# Altium schematic symbol library kmilo17pet-Microchip_Flash.SchLib: 291 symbols (part 3 of 37)
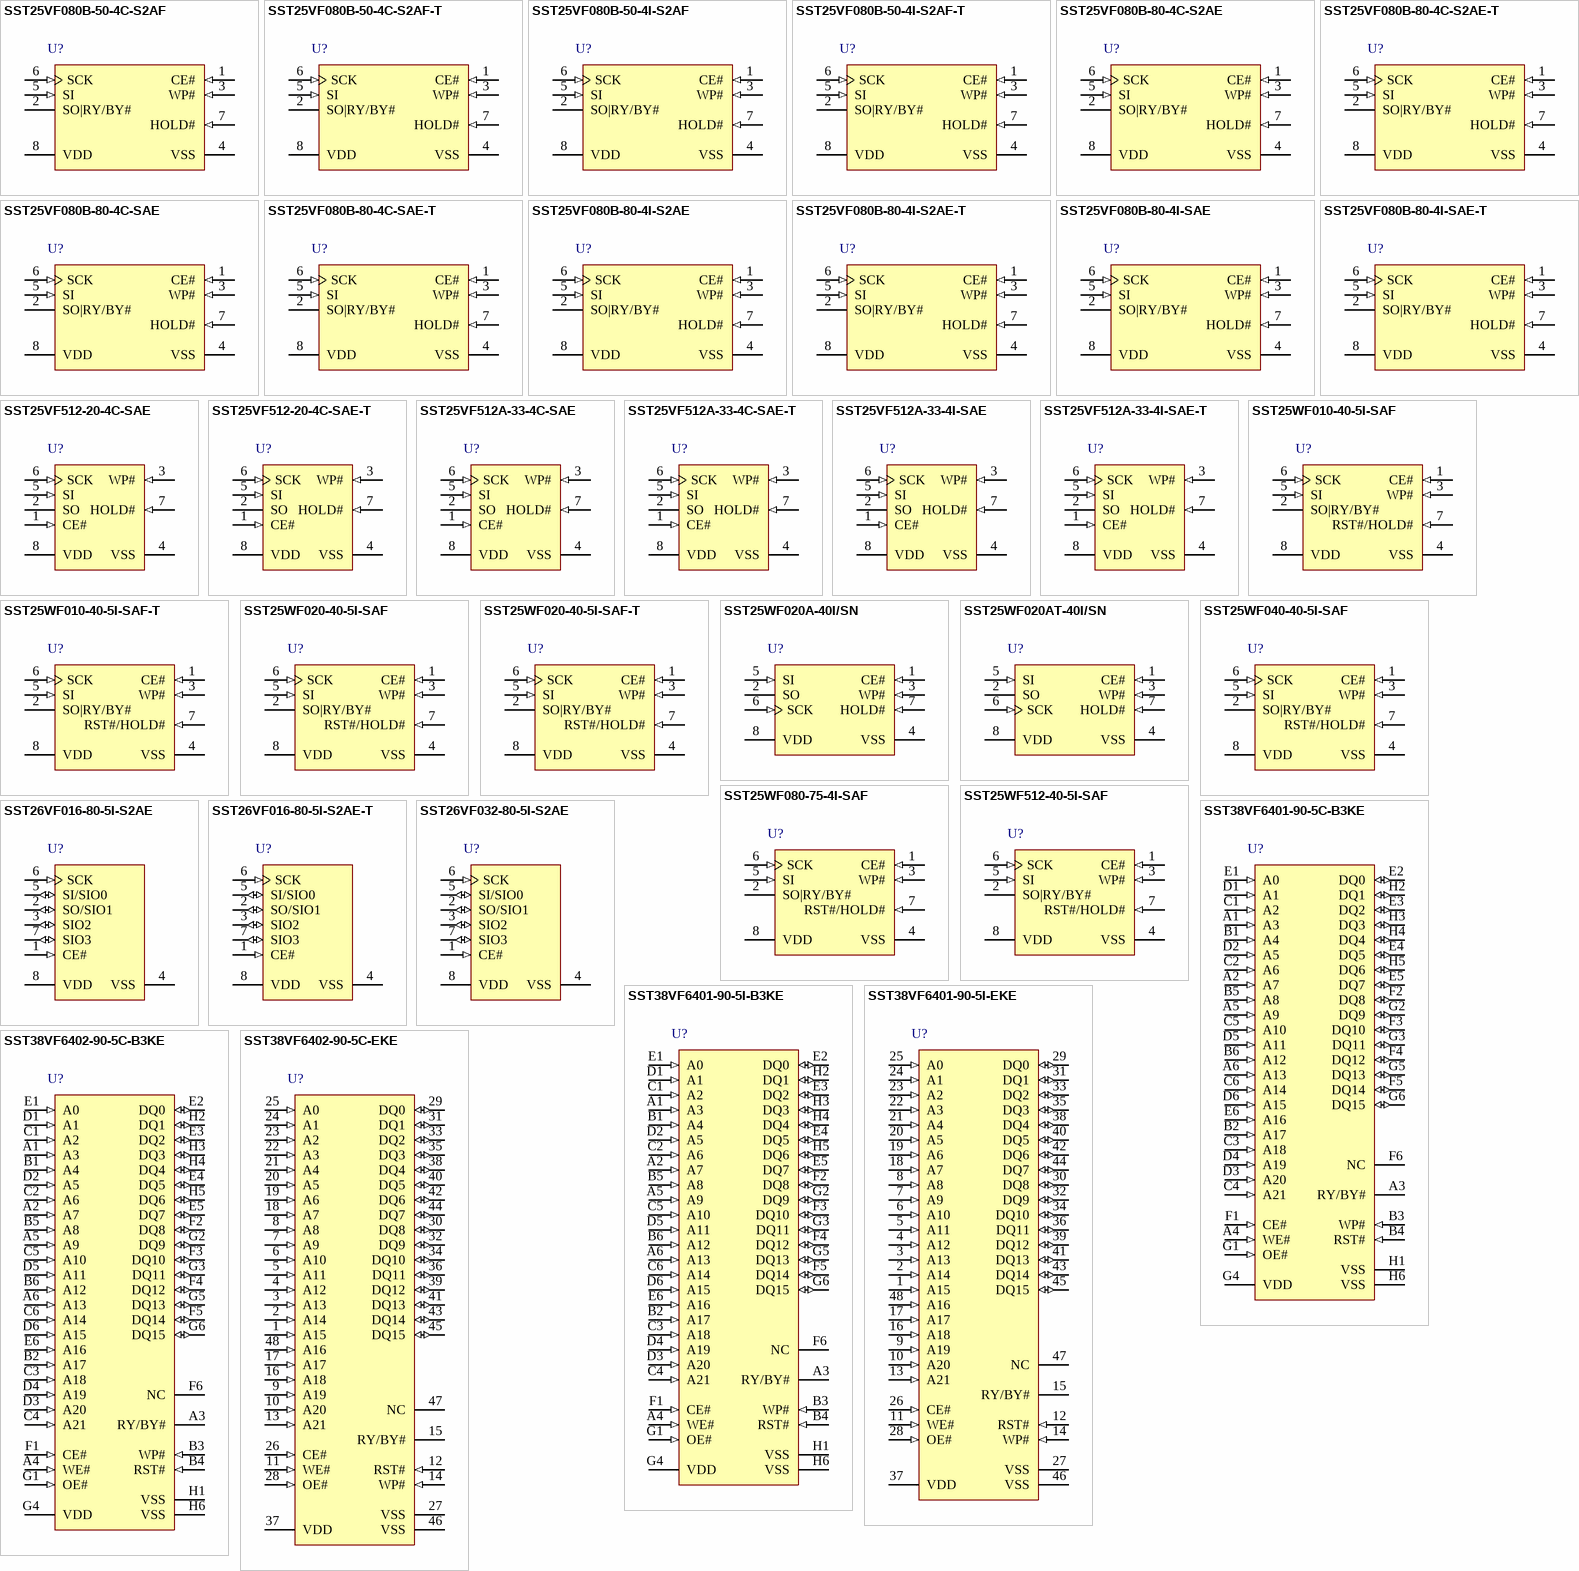
[diagram p17: symbols SST25VF080B-50-4C-S2AF to SST38VF6402-90-5C-EKE]

## SST25VF080B-80-4I-S2AE-T
designator U?
8 Mbit SPI Serial Flash, 2.7 to 3.6 V, 80 MHz, -40 to 85 degC, 8-pin SOIC (S2A8), Tape and Reel; Manufacturer: Microchip; PartNumber: SST25VF080B-80-4I-S2AE-T; DatasheetVersion: Rev. A; PackageVersion: Rev. A; PackageReference: SOIC-S2A8; PackageDescription: 8-Lead Plastic Small Outline Intergrated Circuit, 5.275 x 5.275 mm Body, 1.27 mm Pitch; Supplier 1: Digi-Key; Supplier Part Number 1: SST25VF080B-80-4I-S2AE-T-ND; Mounting Technology: Surface Mount; ComponentLink1Description: Manufacturer URL; ComponentLink1URL: http://www.microchip.com; ComponentLink2Description: Datasheet; ComponentLink2URL: http://ww1.microchip.com/downloads/en/DeviceDoc/25045A.pdf; ComponentLink3Description: Package Specification; ComponentLink3URL: http://ww1.microchip.com/downloads/en/DeviceDoc/25051A.pdf; ComponentLink4Description: Product URL; ComponentLink4URL: http://www.microchip.com/SST25VF080B
footprint MCHP-SOIC-S2A8_N (SOIC, 8-Leads, Body 5.275x5.275mm, Pitch 1.27mm, IPC Medium Density)
footprint MCHP-SOIC-S2A8_L (SOIC, 8-Leads, Body 5.275x5.275mm, Pitch 1.27mm, IPC High Density)
footprint MCHP-SOIC-S2A8_M (SOIC, 8-Leads, Body 5.275x5.275mm, Pitch 1.27mm, IPC Low Density)
pins: 1 CE# (in) "The device is enabled by a high to low transition on CE#. CE# must remain low for the duration of any command sequence.", 2 SO|RY/BY# (hiz), 3 WP# (in) "The Write Protect (WP#) pin is used to enable/disable BPL bit in the status register.", 4 VSS (power) "Ground", 5 SI (in) "To transfer commands, addresses, or data serially into the device. Inputs are latched on the rising edge of the serial clock.", 6 SCK (in) "To provide the timing of the serial interface. Commands, addresses, or input data are latched on the rising edge of the clock input, while output data is shifted out on the falling edge of the clock input.", 7 HOLD# (in) "To temporarily stop serial communication with SPI flash memory without resetting the device.", 8 VDD (power) "To provide power supply (2.7-3.6V)."

## SST25VF080B-80-4I-SAE
designator U?
8 Mbit SPI Serial Flash, 2.7 to 3.6 V, 80 MHz, -40 to 85 degC, 8-pin SOIC (SA8), Tube; Manufacturer: Microchip; PartNumber: SST25VF080B-80-4I-SAE; DatasheetVersion: Rev. A; PackageVersion: Rev. A; PackageReference: SOIC-SA8; PackageDescription: 8-Lead Plastic Small Outline, 4.9 x 3.9 mm Body, 1.27 mm Pitch; Supplier 1: Digi-Key; Supplier Part Number 1: SST25VF080B-80-4I-SAE-ND; Mounting Technology: Surface Mount; Code_JEDEC: MS-012; ComponentLink1Description: Manufacturer URL; ComponentLink1URL: http://www.microchip.com; ComponentLink2Description: Datasheet; ComponentLink2URL: http://ww1.microchip.com/downloads/en/DeviceDoc/25045A.pdf; ComponentLink3Description: Package Specification; ComponentLink3URL: http://ww1.microchip.com/downloads/en/DeviceDoc/25080A.pdf; ComponentLink4Description: Product URL; ComponentLink4URL: http://www.microchip.com/SST25VF080B
footprint MCHP-SOIC-SA8_N (SOIC, 8-Leads, Body 4.9x3.9mm, Pitch 1.27mm, IPC Medium Density)
footprint MCHP-SOIC-SA8_L (SOIC, 8-Leads, Body 4.9x3.9mm, Pitch 1.27mm, IPC High Density)
footprint MCHP-SOIC-SA8_M (SOIC, 8-Leads, Body 4.9x3.9mm, Pitch 1.27mm, IPC Low Density)
pins: 1 CE# (in) "The device is enabled by a high to low transition on CE#. CE# must remain low for the duration of any command sequence.", 2 SO|RY/BY# (hiz), 3 WP# (in) "The Write Protect (WP#) pin is used to enable/disable BPL bit in the status register.", 4 VSS (power) "Ground", 5 SI (in) "To transfer commands, addresses, or data serially into the device. Inputs are latched on the rising edge of the serial clock.", 6 SCK (in) "To provide the timing of the serial interface. Commands, addresses, or input data are latched on the rising edge of the clock input, while output data is shifted out on the falling edge of the clock input.", 7 HOLD# (in) "To temporarily stop serial communication with SPI flash memory without resetting the device.", 8 VDD (power) "To provide power supply (2.7-3.6V)."

## SST25VF080B-80-4I-SAE-T
designator U?
8 Mbit SPI Serial Flash, 2.7 to 3.6 V, 80 MHz, -40 to 85 degC, 8-pin SOIC (SA8), Tape and Reel; Manufacturer: Microchip; PartNumber: SST25VF080B-80-4I-SAE-T; DatasheetVersion: Rev. A; PackageVersion: Rev. A; PackageReference: SOIC-SA8; PackageDescription: 8-Lead Plastic Small Outline, 4.9 x 3.9 mm Body, 1.27 mm Pitch; Supplier 1: Digi-Key; Supplier Part Number 1: SST25VF080B-80-4I-SAE-T-ND; Mounting Technology: Surface Mount; Code_JEDEC: MS-012; ComponentLink1Description: Manufacturer URL; ComponentLink1URL: http://www.microchip.com; ComponentLink2Description: Datasheet; ComponentLink2URL: http://ww1.microchip.com/downloads/en/DeviceDoc/25045A.pdf; ComponentLink3Description: Package Specification; ComponentLink3URL: http://ww1.microchip.com/downloads/en/DeviceDoc/25080A.pdf; ComponentLink4Description: Product URL; ComponentLink4URL: http://www.microchip.com/SST25VF080B
footprint MCHP-SOIC-SA8_N (SOIC, 8-Leads, Body 4.9x3.9mm, Pitch 1.27mm, IPC Medium Density)
footprint MCHP-SOIC-SA8_L (SOIC, 8-Leads, Body 4.9x3.9mm, Pitch 1.27mm, IPC High Density)
footprint MCHP-SOIC-SA8_M (SOIC, 8-Leads, Body 4.9x3.9mm, Pitch 1.27mm, IPC Low Density)
pins: 1 CE# (in) "The device is enabled by a high to low transition on CE#. CE# must remain low for the duration of any command sequence.", 2 SO|RY/BY# (hiz), 3 WP# (in) "The Write Protect (WP#) pin is used to enable/disable BPL bit in the status register.", 4 VSS (power) "Ground", 5 SI (in) "To transfer commands, addresses, or data serially into the device. Inputs are latched on the rising edge of the serial clock.", 6 SCK (in) "To provide the timing of the serial interface. Commands, addresses, or input data are latched on the rising edge of the clock input, while output data is shifted out on the falling edge of the clock input.", 7 HOLD# (in) "To temporarily stop serial communication with SPI flash memory without resetting the device.", 8 VDD (power) "To provide power supply (2.7-3.6V)."

## SST25VF512-20-4C-SAE
designator U?
512 Kbit SPI Serial Flash, 2.7 to 3.6 V, 20 MHz, 0 to 70 degC, 8-pin SOIC (SA8), Tube; Manufacturer: Microchip; PartNumber: SST25VF512-20-4C-SAE; DatasheetVersion: Rev. A; PackageVersion: Rev. A; PackageReference: SOIC-SA8; PackageDescription: 8-Lead Plastic Small Outline, 4.9 x 3.9 mm Body, 1.27 mm Pitch; Supplier 1: Digi-Key; Supplier Part Number 1: SST25VF512-20-4C-SAE-ND; Mounting Technology: Surface Mount; Code_JEDEC: MS-012; ComponentLink1Description: Manufacturer URL; ComponentLink1URL: http://www.microchip.com; ComponentLink2Description: Datasheet; ComponentLink2URL: http://ww1.microchip.com/downloads/en/DeviceDoc/25076A.pdf; ComponentLink3Description: Package Specification; ComponentLink3URL: http://ww1.microchip.com/downloads/en/DeviceDoc/25080A.pdf; ComponentLink4Description: Product URL; ComponentLink4URL: http://www.microchip.com/SST25VF512
footprint MCHP-SOIC-SA8_N (SOIC, 8-Leads, Body 4.9x3.9mm, Pitch 1.27mm, IPC Medium Density)
footprint MCHP-SOIC-SA8_L (SOIC, 8-Leads, Body 4.9x3.9mm, Pitch 1.27mm, IPC High Density)
footprint MCHP-SOIC-SA8_M (SOIC, 8-Leads, Body 4.9x3.9mm, Pitch 1.27mm, IPC Low Density)
pins: 1 CE# (in) "The device is enabled by a high to low transition on CE#. CE# must remain low for the duration of any command sequence.", 2 SO (hiz) "To transfer data serially out of the device. Data is shifted out on the falling edge of the serial clock.", 3 WP# (in) "The Write Protect (WP#) pin is used to enable/disable BPL bit in the status register.", 4 VSS (power) "Ground", 5 SI (in) "To transfer commands, addresses, or data serially into the device. Inputs are latched on the rising edge of the serial clock.", 6 SCK (in) "To provide the timing of the serial interface. Commands, addresses, or input data are latched on the rising edge of the clock input, while output data is shifted out on the falling edge of the clock input.", 7 HOLD# (in) "To temporarily stop serial communication with SPI flash memory without resetting the device.", 8 VDD (power) "To provide power supply (2.7-3.6V)."

## SST25VF512-20-4C-SAE-T
designator U?
512 Kbit SPI Serial Flash, 2.7 to 3.6 V, 20 MHz, 0 to 70 degC, 8-pin SOIC (SA8), Tape and Reel; Manufacturer: Microchip; PartNumber: SST25VF512-20-4C-SAE-T; DatasheetVersion: Rev. A; PackageVersion: Rev. A; PackageReference: SOIC-SA8; PackageDescription: 8-Lead Plastic Small Outline, 4.9 x 3.9 mm Body, 1.27 mm Pitch; Supplier 1: Digi-Key; Supplier Part Number 1: SST25VF512-20-4C-SAE-T-ND; Mounting Technology: Surface Mount; Code_JEDEC: MS-012; ComponentLink1Description: Manufacturer URL; ComponentLink1URL: http://www.microchip.com; ComponentLink2Description: Datasheet; ComponentLink2URL: http://ww1.microchip.com/downloads/en/DeviceDoc/25076A.pdf; ComponentLink3Description: Package Specification; ComponentLink3URL: http://ww1.microchip.com/downloads/en/DeviceDoc/25080A.pdf; ComponentLink4Description: Product URL; ComponentLink4URL: http://www.microchip.com/SST25VF512
footprint MCHP-SOIC-SA8_N (SOIC, 8-Leads, Body 4.9x3.9mm, Pitch 1.27mm, IPC Medium Density)
footprint MCHP-SOIC-SA8_L (SOIC, 8-Leads, Body 4.9x3.9mm, Pitch 1.27mm, IPC High Density)
footprint MCHP-SOIC-SA8_M (SOIC, 8-Leads, Body 4.9x3.9mm, Pitch 1.27mm, IPC Low Density)
pins: 1 CE# (in) "The device is enabled by a high to low transition on CE#. CE# must remain low for the duration of any command sequence.", 2 SO (hiz) "To transfer data serially out of the device. Data is shifted out on the falling edge of the serial clock.", 3 WP# (in) "The Write Protect (WP#) pin is used to enable/disable BPL bit in the status register.", 4 VSS (power) "Ground", 5 SI (in) "To transfer commands, addresses, or data serially into the device. Inputs are latched on the rising edge of the serial clock.", 6 SCK (in) "To provide the timing of the serial interface. Commands, addresses, or input data are latched on the rising edge of the clock input, while output data is shifted out on the falling edge of the clock input.", 7 HOLD# (in) "To temporarily stop serial communication with SPI flash memory without resetting the device.", 8 VDD (power) "To provide power supply (2.7-3.6V)."

## SST25VF512A-33-4C-SAE
designator U?
512 Kbit SPI Serial Flash, 2.7 to 3.6 V, 33 MHz, 0 to 70 degC, 8-pin SOIC (SA8), Tube; Manufacturer: Microchip; PartNumber: SST25VF512A-33-4C-SAE; DatasheetVersion: DS25090A; PackageVersion: Rev. A; PackageReference: SOIC-SA8; PackageDescription: 8-Lead Plastic Small Outline, 4.9 x 3.9 mm Body, 1.27 mm Pitch; Supplier 1: Digi-Key; Supplier Part Number 1: SST25VF512A-33-4C-SAE-ND; Mounting Technology: Surface Mount; Code_JEDEC: MS-012; ComponentLink1Description: Manufacturer URL; ComponentLink1URL: http://www.microchip.com; ComponentLink2Description: Datasheet; ComponentLink2URL: http://ww1.microchip.com/downloads/en/DeviceDoc/25090A.pdf; ComponentLink3Description: Package Specification; ComponentLink3URL: http://ww1.microchip.com/downloads/en/DeviceDoc/25080A.pdf; ComponentLink4Description: Product URL; ComponentLink4URL: http://www.microchip.com/SST25VF512A
footprint MCHP-SOIC-SA8_N (SOIC, 8-Leads, Body 4.9x3.9mm, Pitch 1.27mm, IPC Medium Density)
footprint MCHP-SOIC-SA8_L (SOIC, 8-Leads, Body 4.9x3.9mm, Pitch 1.27mm, IPC High Density)
footprint MCHP-SOIC-SA8_M (SOIC, 8-Leads, Body 4.9x3.9mm, Pitch 1.27mm, IPC Low Density)
pins: 1 CE# (in) "The device is enabled by a high to low transition on CE#. CE# must remain low for the duration of any command sequence.", 2 SO (hiz) "To transfer data serially out of the device. Data is shifted out on the falling edge of the serial clock.", 3 WP# (in) "The Write Protect (WP#) pin is used to enable/disable BPL bit in the status register.", 4 VSS (power) "Ground", 5 SI (in) "To transfer commands, addresses, or data serially into the device. Inputs are latched on the rising edge of the serial clock.", 6 SCK (in) "To provide the timing of the serial interface. Commands, addresses, or input data are latched on the rising edge of the clock input, while output data is shifted out on the falling edge of the clock input.", 7 HOLD# (in) "To temporarily stop serial communication with SPI flash memory without resetting the device.", 8 VDD (power) "To provide power supply (2.7-3.6V)."

## SST25VF512A-33-4C-SAE-T
designator U?
512 Kbit SPI Serial Flash, 2.7 to 3.6 V, 33 MHz, 0 to 70 degC, 8-pin SOIC (SA8), Tape and Reel; Manufacturer: Microchip; PartNumber: SST25VF512A-33-4C-SAE-T; DatasheetVersion: DS25090A; PackageVersion: Rev. A; PackageReference: SOIC-SA8; PackageDescription: 8-Lead Plastic Small Outline, 4.9 x 3.9 mm Body, 1.27 mm Pitch; Supplier 1: Digi-Key; Supplier Part Number 1: SST25VF512A-33-4C-SAE-T-ND; Mounting Technology: Surface Mount; Code_JEDEC: MS-012; ComponentLink1Description: Manufacturer URL; ComponentLink1URL: http://www.microchip.com; ComponentLink2Description: Datasheet; ComponentLink2URL: http://ww1.microchip.com/downloads/en/DeviceDoc/25090A.pdf; ComponentLink3Description: Package Specification; ComponentLink3URL: http://ww1.microchip.com/downloads/en/DeviceDoc/25080A.pdf; ComponentLink4Description: Product URL; ComponentLink4URL: http://www.microchip.com/SST25VF512A
footprint MCHP-SOIC-SA8_N (SOIC, 8-Leads, Body 4.9x3.9mm, Pitch 1.27mm, IPC Medium Density)
footprint MCHP-SOIC-SA8_L (SOIC, 8-Leads, Body 4.9x3.9mm, Pitch 1.27mm, IPC High Density)
footprint MCHP-SOIC-SA8_M (SOIC, 8-Leads, Body 4.9x3.9mm, Pitch 1.27mm, IPC Low Density)
pins: 1 CE# (in) "The device is enabled by a high to low transition on CE#. CE# must remain low for the duration of any command sequence.", 2 SO (hiz) "To transfer data serially out of the device. Data is shifted out on the falling edge of the serial clock.", 3 WP# (in) "The Write Protect (WP#) pin is used to enable/disable BPL bit in the status register.", 4 VSS (power) "Ground", 5 SI (in) "To transfer commands, addresses, or data serially into the device. Inputs are latched on the rising edge of the serial clock.", 6 SCK (in) "To provide the timing of the serial interface. Commands, addresses, or input data are latched on the rising edge of the clock input, while output data is shifted out on the falling edge of the clock input.", 7 HOLD# (in) "To temporarily stop serial communication with SPI flash memory without resetting the device.", 8 VDD (power) "To provide power supply (2.7-3.6V)."

## SST25VF512A-33-4I-SAE
designator U?
512 Kbit SPI Serial Flash, 2.7 to 3.6 V, 33 MHz, -40 to 85 degC, 8-pin SOIC (SA8), Tube; Manufacturer: Microchip; PartNumber: SST25VF512A-33-4I-SAE; DatasheetVersion: DS25090A; PackageVersion: Rev. A; PackageReference: SOIC-SA8; PackageDescription: 8-Lead Plastic Small Outline, 4.9 x 3.9 mm Body, 1.27 mm Pitch; Supplier 1: Digi-Key; Supplier Part Number 1: SST25VF512A-33-4I-SAE-ND; Mounting Technology: Surface Mount; Code_JEDEC: MS-012; ComponentLink1Description: Manufacturer URL; ComponentLink1URL: http://www.microchip.com; ComponentLink2Description: Datasheet; ComponentLink2URL: http://ww1.microchip.com/downloads/en/DeviceDoc/25090A.pdf; ComponentLink3Description: Package Specification; ComponentLink3URL: http://ww1.microchip.com/downloads/en/DeviceDoc/25080A.pdf; ComponentLink4Description: Product URL; ComponentLink4URL: http://www.microchip.com/SST25VF512A
footprint MCHP-SOIC-SA8_N (SOIC, 8-Leads, Body 4.9x3.9mm, Pitch 1.27mm, IPC Medium Density)
footprint MCHP-SOIC-SA8_L (SOIC, 8-Leads, Body 4.9x3.9mm, Pitch 1.27mm, IPC High Density)
footprint MCHP-SOIC-SA8_M (SOIC, 8-Leads, Body 4.9x3.9mm, Pitch 1.27mm, IPC Low Density)
pins: 1 CE# (in) "The device is enabled by a high to low transition on CE#. CE# must remain low for the duration of any command sequence.", 2 SO (hiz) "To transfer data serially out of the device. Data is shifted out on the falling edge of the serial clock.", 3 WP# (in) "The Write Protect (WP#) pin is used to enable/disable BPL bit in the status register.", 4 VSS (power) "Ground", 5 SI (in) "To transfer commands, addresses, or data serially into the device. Inputs are latched on the rising edge of the serial clock.", 6 SCK (in) "To provide the timing of the serial interface. Commands, addresses, or input data are latched on the rising edge of the clock input, while output data is shifted out on the falling edge of the clock input.", 7 HOLD# (in) "To temporarily stop serial communication with SPI flash memory without resetting the device.", 8 VDD (power) "To provide power supply (2.7-3.6V)."

## SST25VF512A-33-4I-SAE-T
designator U?
512 Kbit SPI Serial Flash, 2.7 to 3.6 V, 33 MHz, -40 to 85 degC, 8-pin SOIC (SA8), Tape and Reel; Manufacturer: Microchip; PartNumber: SST25VF512A-33-4I-SAE-T; DatasheetVersion: DS25090A; PackageVersion: Rev. A; PackageReference: SOIC-SA8; PackageDescription: 8-Lead Plastic Small Outline, 4.9 x 3.9 mm Body, 1.27 mm Pitch; Supplier 1: Digi-Key; Supplier Part Number 1: SST25VF512A-33-4I-SAE-T-ND; Mounting Technology: Surface Mount; Code_JEDEC: MS-012; ComponentLink1Description: Manufacturer URL; ComponentLink1URL: http://www.microchip.com; ComponentLink2Description: Datasheet; ComponentLink2URL: http://ww1.microchip.com/downloads/en/DeviceDoc/25090A.pdf; ComponentLink3Description: Package Specification; ComponentLink3URL: http://ww1.microchip.com/downloads/en/DeviceDoc/25080A.pdf; ComponentLink4Description: Product URL; ComponentLink4URL: http://www.microchip.com/SST25VF512A
footprint MCHP-SOIC-SA8_N (SOIC, 8-Leads, Body 4.9x3.9mm, Pitch 1.27mm, IPC Medium Density)
footprint MCHP-SOIC-SA8_L (SOIC, 8-Leads, Body 4.9x3.9mm, Pitch 1.27mm, IPC High Density)
footprint MCHP-SOIC-SA8_M (SOIC, 8-Leads, Body 4.9x3.9mm, Pitch 1.27mm, IPC Low Density)
pins: 1 CE# (in) "The device is enabled by a high to low transition on CE#. CE# must remain low for the duration of any command sequence.", 2 SO (hiz) "To transfer data serially out of the device. Data is shifted out on the falling edge of the serial clock.", 3 WP# (in) "The Write Protect (WP#) pin is used to enable/disable BPL bit in the status register.", 4 VSS (power) "Ground", 5 SI (in) "To transfer commands, addresses, or data serially into the device. Inputs are latched on the rising edge of the serial clock.", 6 SCK (in) "To provide the timing of the serial interface. Commands, addresses, or input data are latched on the rising edge of the clock input, while output data is shifted out on the falling edge of the clock input.", 7 HOLD# (in) "To temporarily stop serial communication with SPI flash memory without resetting the device.", 8 VDD (power) "To provide power supply (2.7-3.6V)."

## SST25WF010-40-5I-SAF
designator U?
1 Mbit SPI Serial Flash, 1.65 to 1.95 V, 40 MHz, -40 to 85 degC, 8-pin SOIC (SA8), Tube; Manufacturer: Microchip; PartNumber: SST25WF010-40-5I-SAF; DatasheetVersion: Rev. A; PackageVersion: Rev. A; PackageReference: SOIC-SA8; PackageDescription: 8-Lead Plastic Small Outline, 4.9 x 3.9 mm Body, 1.27 mm Pitch; Supplier 1: Digi-Key; Supplier Part Number 1: SST25WF010-40-5I-SAF-ND; Mounting Technology: Surface Mount; Code_JEDEC: MS-012; ComponentLink1Description: Manufacturer URL; ComponentLink1URL: http://www.microchip.com; ComponentLink2Description: Datasheet; ComponentLink2URL: http://ww1.microchip.com/downloads/en/DeviceDoc/25016A.pdf; ComponentLink3Description: Package Specification; ComponentLink3URL: http://ww1.microchip.com/downloads/en/DeviceDoc/25080A.pdf; ComponentLink4Description: Product URL; ComponentLink4URL: http://www.microchip.com/SST25WF010
footprint MCHP-SOIC-SA8_N (SOIC, 8-Leads, Body 4.9x3.9mm, Pitch 1.27mm, IPC Medium Density)
footprint MCHP-SOIC-SA8_L (SOIC, 8-Leads, Body 4.9x3.9mm, Pitch 1.27mm, IPC High Density)
footprint MCHP-SOIC-SA8_M (SOIC, 8-Leads, Body 4.9x3.9mm, Pitch 1.27mm, IPC Low Density)
pins: 1 CE# (in) "The device is enabled by a high to low transition on CE#. CE# must remain low for the duration of any command sequence.", 2 SO|RY/BY# (hiz), 3 WP# (in) "The Write Protect (WP#) pin is used to enable/disable BPL bit in the status register.", 4 VSS (power) "Ground", 5 SI (in) "To transfer commands, addresses, or data serially into the device. Inputs are latched on the rising edge of the serial clock.", 6 SCK (in) "To provide the timing of the serial interface. Commands, addresses, or input data are latched on the rising edge of the clock input, while output data is shifted out on the falling edge of the clock input.", 7 RST#/HOLD# (in), 8 VDD (power) "To provide power supply voltage: 1.65-1.95V for SST25WF512/010/020/040"

## SST25WF010-40-5I-SAF-T
designator U?
1 Mbit SPI Serial Flash, 1.65 to 1.95 V, 40 MHz, -40 to 85 degC, 8-pin SOIC (SA8), Tape and Reel; Manufacturer: Microchip; PartNumber: SST25WF010-40-5I-SAF-T; DatasheetVersion: Rev. A; PackageVersion: Rev. A; PackageReference: SOIC-SA8; PackageDescription: 8-Lead Plastic Small Outline, 4.9 x 3.9 mm Body, 1.27 mm Pitch; Supplier 1: Digi-Key; Supplier Part Number 1: SST25WF010-40-5I-SAF-T-ND; Mounting Technology: Surface Mount; Code_JEDEC: MS-012; ComponentLink1Description: Manufacturer URL; ComponentLink1URL: http://www.microchip.com; ComponentLink2Description: Datasheet; ComponentLink2URL: http://ww1.microchip.com/downloads/en/DeviceDoc/25016A.pdf; ComponentLink3Description: Package Specification; ComponentLink3URL: http://ww1.microchip.com/downloads/en/DeviceDoc/25080A.pdf; ComponentLink4Description: Product URL; ComponentLink4URL: http://www.microchip.com/SST25WF010
footprint MCHP-SOIC-SA8_N (SOIC, 8-Leads, Body 4.9x3.9mm, Pitch 1.27mm, IPC Medium Density)
footprint MCHP-SOIC-SA8_L (SOIC, 8-Leads, Body 4.9x3.9mm, Pitch 1.27mm, IPC High Density)
footprint MCHP-SOIC-SA8_M (SOIC, 8-Leads, Body 4.9x3.9mm, Pitch 1.27mm, IPC Low Density)
pins: 1 CE# (in) "The device is enabled by a high to low transition on CE#. CE# must remain low for the duration of any command sequence.", 2 SO|RY/BY# (hiz), 3 WP# (in) "The Write Protect (WP#) pin is used to enable/disable BPL bit in the status register.", 4 VSS (power) "Ground", 5 SI (in) "To transfer commands, addresses, or data serially into the device. Inputs are latched on the rising edge of the serial clock.", 6 SCK (in) "To provide the timing of the serial interface. Commands, addresses, or input data are latched on the rising edge of the clock input, while output data is shifted out on the falling edge of the clock input.", 7 RST#/HOLD# (in), 8 VDD (power) "To provide power supply voltage: 1.65-1.95V for SST25WF512/010/020/040"

## SST25WF020-40-5I-SAF
designator U?
2 Mbit SPI Serial Flash, 1.65 to 1.95 V, 40 MHz, -40 to 85 degC, 8-pin SOIC (SA8), Tube; Manufacturer: Microchip; PartNumber: SST25WF020-40-5I-SAF; DatasheetVersion: Rev. A; PackageVersion: Rev. A; PackageReference: SOIC-SA8; PackageDescription: 8-Lead Plastic Small Outline, 4.9 x 3.9 mm Body, 1.27 mm Pitch; Supplier 1: Digi-Key; Supplier Part Number 1: SST25WF020-40-5I-SAF-ND; Mounting Technology: Surface Mount; Code_JEDEC: MS-012; ComponentLink1Description: Manufacturer URL; ComponentLink1URL: http://www.microchip.com; ComponentLink2Description: Datasheet; ComponentLink2URL: http://ww1.microchip.com/downloads/en/DeviceDoc/25016A.pdf; ComponentLink3Description: Package Specification; ComponentLink3URL: http://ww1.microchip.com/downloads/en/DeviceDoc/25080A.pdf; ComponentLink4Description: Product URL; ComponentLink4URL: http://www.microchip.com/SST25WF020
footprint MCHP-SOIC-SA8_N (SOIC, 8-Leads, Body 4.9x3.9mm, Pitch 1.27mm, IPC Medium Density)
footprint MCHP-SOIC-SA8_L (SOIC, 8-Leads, Body 4.9x3.9mm, Pitch 1.27mm, IPC High Density)
footprint MCHP-SOIC-SA8_M (SOIC, 8-Leads, Body 4.9x3.9mm, Pitch 1.27mm, IPC Low Density)
pins: 1 CE# (in) "The device is enabled by a high to low transition on CE#. CE# must remain low for the duration of any command sequence.", 2 SO|RY/BY# (hiz), 3 WP# (in) "The Write Protect (WP#) pin is used to enable/disable BPL bit in the status register.", 4 VSS (power) "Ground", 5 SI (in) "To transfer commands, addresses, or data serially into the device. Inputs are latched on the rising edge of the serial clock.", 6 SCK (in) "To provide the timing of the serial interface. Commands, addresses, or input data are latched on the rising edge of the clock input, while output data is shifted out on the falling edge of the clock input.", 7 RST#/HOLD# (in), 8 VDD (power) "To provide power supply voltage: 1.65-1.95V for SST25WF512/010/020/040"

## SST25WF020-40-5I-SAF-T
designator U?
2 Mbit SPI Serial Flash, 1.65 to 1.95 V, 40 MHz, -40 to 85 degC, 8-pin SOIC (SA8), Tape and Reel; Manufacturer: Microchip; PartNumber: SST25WF020-40-5I-SAF-T; DatasheetVersion: Rev. A; PackageVersion: Rev. A; PackageReference: SOIC-SA8; PackageDescription: 8-Lead Plastic Small Outline, 4.9 x 3.9 mm Body, 1.27 mm Pitch; Supplier 1: Digi-Key; Supplier Part Number 1: SST25WF020-40-5I-SAF-T-ND; Mounting Technology: Surface Mount; Code_JEDEC: MS-012; ComponentLink1Description: Manufacturer URL; ComponentLink1URL: http://www.microchip.com; ComponentLink2Description: Datasheet; ComponentLink2URL: http://ww1.microchip.com/downloads/en/DeviceDoc/25016A.pdf; ComponentLink3Description: Package Specification; ComponentLink3URL: http://ww1.microchip.com/downloads/en/DeviceDoc/25080A.pdf; ComponentLink4Description: Product URL; ComponentLink4URL: http://www.microchip.com/SST25WF020
footprint MCHP-SOIC-SA8_N (SOIC, 8-Leads, Body 4.9x3.9mm, Pitch 1.27mm, IPC Medium Density)
footprint MCHP-SOIC-SA8_L (SOIC, 8-Leads, Body 4.9x3.9mm, Pitch 1.27mm, IPC High Density)
footprint MCHP-SOIC-SA8_M (SOIC, 8-Leads, Body 4.9x3.9mm, Pitch 1.27mm, IPC Low Density)
pins: 1 CE# (in) "The device is enabled by a high to low transition on CE#. CE# must remain low for the duration of any command sequence.", 2 SO|RY/BY# (hiz), 3 WP# (in) "The Write Protect (WP#) pin is used to enable/disable BPL bit in the status register.", 4 VSS (power) "Ground", 5 SI (in) "To transfer commands, addresses, or data serially into the device. Inputs are latched on the rising edge of the serial clock.", 6 SCK (in) "To provide the timing of the serial interface. Commands, addresses, or input data are latched on the rising edge of the clock input, while output data is shifted out on the falling edge of the clock input.", 7 RST#/HOLD# (in), 8 VDD (power) "To provide power supply voltage: 1.65-1.95V for SST25WF512/010/020/040"

## SST25WF020A-40I/SN
designator U?
2 Mbit 1.8 V SPI Serial Flash, 1.65 to 1.95 V, Industrial Temperature, 8-Pin SOIC (SN8), Tube; Manufacturer: Microchip; PartNumber: SST25WF020A-40I/SN; DatasheetVersion: Rev. D; PackageVersion: C04-057C, 12/2012; PackageReference: SOIC-SN8; PackageDescription: 8-Lead Plastic Small Outline, 4.9 x 3.9 mm Body, 1.27 mm Pitch; Supplier 1: Digi-Key; Supplier Part Number 1: SST25WF020A-40I/SN-ND; Family: SST Flash; Packing: Tube; VCC Range: 1.65 to 1.95 V; Mounting Technology: Surface Mount; ComponentLink1Description: Manufacturer URL; ComponentLink1URL: http://www.microchip.com/; ComponentLink2Description: Datasheet; ComponentLink2URL: http://ww1.microchip.com/downloads/en/DeviceDoc/20005139D.pdf; ComponentLink3Description: Package Specification; ComponentLink3URL: http://ww1.microchip.com/downloads/en/DeviceDoc/20002122B.pdf
footprint MCHP-SOIC-SN8_N (SOIC, 8-Leads, Body 4.9x3.9mm, Pitch 1.27mm, IPC Medium Density)
footprint MCHP-SOIC-SN8_L (SOIC, 8-Leads, Body 4.9x3.9mm, Pitch 1.27mm, IPC High Density)
footprint MCHP-SOIC-SN8_M (SOIC, 8-Leads, Body 4.9x3.9mm, Pitch 1.27mm, IPC Low Density)
pins: 1 CE# (in) "The device is enabled by a high to low transition on CE#. CE# must remain low  for the duration of any command sequence. The device is deselected and  placed in Standby mode when CE# is high.", 2 SO (hiz) "To transfer data serially out of the device. Data is shifted out on the falling edge of the serial clock.", 3 WP# (in) "The Write Protect(WP#) pin is used to enable/disable BPL bit in the status register.", 4 VSS (power), 5 SI (in) "To transfer commands, addresses, or data serially into the device. Inputs are latched on the rising edge of the serial clock.", 6 SCK (in) "To provide the input/output timing of the serial interface. Commands, addresses, or input data are latched on the rising edge of the clock  input, while output data is shifted out on the falling edge of the clock input.", 7 HOLD# (in) "To temporarily stop serial communication with SPI Flash memory while device  is selected.", 8 VDD (power) "To provide power supply voltage: 1.65-1.95V for SST25WF020A"

## SST25WF020AT-40I/SN
designator U?
2 Mbit 1.8 V SPI Serial Flash, 1.65 to 1.95 V, Industrial Temperature, 8-Pin SOIC (SN8), Tape and Reel; Manufacturer: Microchip; PartNumber: SST25WF020AT-40I/SN; DatasheetVersion: Rev. D; PackageVersion: C04-057C, 12/2012; PackageReference: SOIC-SN8; PackageDescription: 8-Lead Plastic Small Outline, 4.9 x 3.9 mm Body, 1.27 mm Pitch; Supplier 1: Digi-Key; Supplier Part Number 1: SST25WF020AT-40I/SN-ND; Family: SST Flash; Packing: Tape and Reel; VCC Range: 1.65 to 1.95 V; Mounting Technology: Surface Mount; ComponentLink1Description: Manufacturer URL; ComponentLink1URL: http://www.microchip.com/; ComponentLink2Description: Datasheet; ComponentLink2URL: http://ww1.microchip.com/downloads/en/DeviceDoc/20005139D.pdf; ComponentLink3Description: Package Specification; ComponentLink3URL: http://ww1.microchip.com/downloads/en/DeviceDoc/20002122B.pdf
footprint MCHP-SOIC-SN8_N (SOIC, 8-Leads, Body 4.9x3.9mm, Pitch 1.27mm, IPC Medium Density)
footprint MCHP-SOIC-SN8_L (SOIC, 8-Leads, Body 4.9x3.9mm, Pitch 1.27mm, IPC High Density)
footprint MCHP-SOIC-SN8_M (SOIC, 8-Leads, Body 4.9x3.9mm, Pitch 1.27mm, IPC Low Density)
pins: 1 CE# (in) "The device is enabled by a high to low transition on CE#. CE# must remain low  for the duration of any command sequence. The device is deselected and  placed in Standby mode when CE# is high.", 2 SO (hiz) "To transfer data serially out of the device. Data is shifted out on the falling edge of the serial clock.", 3 WP# (in) "The Write Protect(WP#) pin is used to enable/disable BPL bit in the status register.", 4 VSS (power), 5 SI (in) "To transfer commands, addresses, or data serially into the device. Inputs are latched on the rising edge of the serial clock.", 6 SCK (in) "To provide the input/output timing of the serial interface. Commands, addresses, or input data are latched on the rising edge of the clock  input, while output data is shifted out on the falling edge of the clock input.", 7 HOLD# (in) "To temporarily stop serial communication with SPI Flash memory while device  is selected.", 8 VDD (power) "To provide power supply voltage: 1.65-1.95V for SST25WF020A"

## SST25WF040-40-5I-SAF
designator U?
4 Mbit SPI Serial Flash, 1.65 to 1.95 V, 40 MHz, -40 to 85 degC, 8-pin SOIC (SA8), Tube; Manufacturer: Microchip; PartNumber: SST25WF040-40-5I-SAF; DatasheetVersion: Rev. A; PackageVersion: Rev. A; PackageReference: SOIC-SA8; PackageDescription: 8-Lead Plastic Small Outline, 4.9 x 3.9 mm Body, 1.27 mm Pitch; Supplier 1: Digi-Key; Supplier Part Number 1: SST25WF040-40-5I-SAF-ND; Mounting Technology: Surface Mount; Code_JEDEC: MS-012; ComponentLink1Description: Manufacturer URL; ComponentLink1URL: http://www.microchip.com; ComponentLink2Description: Datasheet; ComponentLink2URL: http://ww1.microchip.com/downloads/en/DeviceDoc/25016A.pdf; ComponentLink3Description: Package Specification; ComponentLink3URL: http://ww1.microchip.com/downloads/en/DeviceDoc/25080A.pdf; ComponentLink4Description: Product URL; ComponentLink4URL: http://www.microchip.com/SST25WF040
footprint MCHP-SOIC-SA8_N (SOIC, 8-Leads, Body 4.9x3.9mm, Pitch 1.27mm, IPC Medium Density)
footprint MCHP-SOIC-SA8_L (SOIC, 8-Leads, Body 4.9x3.9mm, Pitch 1.27mm, IPC High Density)
footprint MCHP-SOIC-SA8_M (SOIC, 8-Leads, Body 4.9x3.9mm, Pitch 1.27mm, IPC Low Density)
pins: 1 CE# (in) "The device is enabled by a high to low transition on CE#. CE# must remain low for the duration of any command sequence.", 2 SO|RY/BY# (hiz), 3 WP# (in) "The Write Protect (WP#) pin is used to enable/disable BPL bit in the status register.", 4 VSS (power) "Ground", 5 SI (in) "To transfer commands, addresses, or data serially into the device. Inputs are latched on the rising edge of the serial clock.", 6 SCK (in) "To provide the timing of the serial interface. Commands, addresses, or input data are latched on the rising edge of the clock input, while output data is shifted out on the falling edge of the clock input.", 7 RST#/HOLD# (in), 8 VDD (power) "To provide power supply voltage: 1.65-1.95V for SST25WF512/010/020/040"

## SST25WF080-75-4I-SAF
designator U?
8 Mbit SPI Serial Flash, 1.65 to 1.95 V, 75 MHz, -40 to 85 degC, 8-pin SOIC (SA8), Tube; Manufacturer: Microchip; PartNumber: SST25WF080-75-4I-SAF; DatasheetVersion: Rev. C; PackageVersion: Rev. A; PackageReference: SOIC-SA8; PackageDescription: 8-Lead Plastic Small Outline, 4.9 x 3.9 mm Body, 1.27 mm Pitch; Supplier 1: Digi-Key; Supplier Part Number 1: SST25WF080-75-4I-SAF-ND; Mounting Technology: Surface Mount; Code_JEDEC: MS-012; ComponentLink1Description: Manufacturer URL; ComponentLink1URL: http://www.microchip.com; ComponentLink2Description: Datasheet; ComponentLink2URL: http://ww1.microchip.com/downloads/en/DeviceDoc/25024C.pdf; ComponentLink3Description: Package Specification; ComponentLink3URL: http://ww1.microchip.com/downloads/en/DeviceDoc/25080A.pdf; ComponentLink4Description: Product URL; ComponentLink4URL: http://www.microchip.com/SST25WF080
footprint MCHP-SOIC-SA8_N (SOIC, 8-Leads, Body 4.9x3.9mm, Pitch 1.27mm, IPC Medium Density)
footprint MCHP-SOIC-SA8_L (SOIC, 8-Leads, Body 4.9x3.9mm, Pitch 1.27mm, IPC High Density)
footprint MCHP-SOIC-SA8_M (SOIC, 8-Leads, Body 4.9x3.9mm, Pitch 1.27mm, IPC Low Density)
pins: 1 CE# (in) "The device is enabled by a high to low transition on CE#. CE# must remain low for the duration of any command sequence.", 2 SO|RY/BY# (hiz), 3 WP# (in) "The Write Protect (WP#) pin is used to enable/disable BPL bit in the status register.", 4 VSS (power) "Ground", 5 SI (in) "To transfer commands, addresses, or data serially into the device. Inputs are latched on the rising edge of the serial clock.", 6 SCK (in) "To provide the timing of the serial interface. Commands, addresses, or input data are latched on the rising edge of the clock input, while output data is shifted out on the falling edge of the clock input.", 7 RST#/HOLD# (in), 8 VDD (power) "To provide power supply voltage: 1.65-1.95V for SST25WF512/010/020/040"

## SST25WF512-40-5I-SAF
designator U?
512 Kbit SPI Serial Flash, 1.65 to 1.95 V, 40 MHz, -40 to 85 degC, 8-pin SOIC (SA8), Tube; Manufacturer: Microchip; PartNumber: SST25WF512-40-5I-SAF; DatasheetVersion: Rev. A; PackageVersion: Rev. A; PackageReference: SOIC-SA8; PackageDescription: 8-Lead Plastic Small Outline, 4.9 x 3.9 mm Body, 1.27 mm Pitch; Supplier 1: Digi-Key; Supplier Part Number 1: SST25WF512-40-5I-SAF-ND; Mounting Technology: Surface Mount; Code_JEDEC: MS-012; ComponentLink1Description: Manufacturer URL; ComponentLink1URL: http://www.microchip.com; ComponentLink2Description: Datasheet; ComponentLink2URL: http://ww1.microchip.com/downloads/en/DeviceDoc/25016A.pdf; ComponentLink3Description: Package Specification; ComponentLink3URL: http://ww1.microchip.com/downloads/en/DeviceDoc/25080A.pdf; ComponentLink4Description: Product URL; ComponentLink4URL: http://www.microchip.com/SST25WF512
footprint MCHP-SOIC-SA8_N (SOIC, 8-Leads, Body 4.9x3.9mm, Pitch 1.27mm, IPC Medium Density)
footprint MCHP-SOIC-SA8_L (SOIC, 8-Leads, Body 4.9x3.9mm, Pitch 1.27mm, IPC High Density)
footprint MCHP-SOIC-SA8_M (SOIC, 8-Leads, Body 4.9x3.9mm, Pitch 1.27mm, IPC Low Density)
pins: 1 CE# (in) "The device is enabled by a high to low transition on CE#. CE# must remain low for the duration of any command sequence.", 2 SO|RY/BY# (hiz), 3 WP# (in) "The Write Protect (WP#) pin is used to enable/disable BPL bit in the status register.", 4 VSS (power) "Ground", 5 SI (in) "To transfer commands, addresses, or data serially into the device. Inputs are latched on the rising edge of the serial clock.", 6 SCK (in) "To provide the timing of the serial interface. Commands, addresses, or input data are latched on the rising edge of the clock input, while output data is shifted out on the falling edge of the clock input.", 7 RST#/HOLD# (in), 8 VDD (power) "To provide power supply voltage: 1.65-1.95V for SST25WF512/010/020/040"

## SST26VF016-80-5I-S2AE
designator U?
16 Mbit Serial Quad I/O (SQI) Flash Memory, 2.7 to 3.6 V, 80 MHz, -40 to 85 degC, 8-pin SOIC (S2A8), Tube; Manufacturer: Microchip; PartNumber: SST26VF016-80-5I-S2AE; DatasheetVersion: Rev. A; PackageVersion: Rev. A; PackageReference: SOIC-S2A8; PackageDescription: 8-Lead Plastic Small Outline Intergrated Circuit, 5.275 x 5.275 mm Body, 1.27 mm Pitch; Supplier 1: Digi-Key; Supplier Part Number 1: SST26VF016-80-5I-S2AE-ND; Mounting Technology: Surface Mount; ComponentLink1Description: Manufacturer URL; ComponentLink1URL: http://www.microchip.com; ComponentLink2Description: Datasheet; ComponentLink2URL: http://ww1.microchip.com/downloads/en/DeviceDoc/25017A.pdf; ComponentLink3Description: Package Specification; ComponentLink3URL: http://ww1.microchip.com/downloads/en/DeviceDoc/25051A.pdf; ComponentLink4Description: Product URL; ComponentLink4URL: http://www.microchip.com/SST26VF016
footprint MCHP-SOIC-S2A8_N (SOIC, 8-Leads, Body 5.275x5.275mm, Pitch 1.27mm, IPC Medium Density)
footprint MCHP-SOIC-S2A8_L (SOIC, 8-Leads, Body 5.275x5.275mm, Pitch 1.27mm, IPC High Density)
footprint MCHP-SOIC-S2A8_M (SOIC, 8-Leads, Body 5.275x5.275mm, Pitch 1.27mm, IPC Low Density)
pins: 1 CE# (in) "The device is enabled by a high to low transition on CE#. CE# must remain low for the duration of any command sequence; or in the case of Write operations, for the command/data input sequence.", 2 SO/SIO1 (io), 3 SIO2 (io) "To transfer commands, addresses, or data serially into the device or data out of the device. Inputs are latched on the rising edge of the serial clock. Data is shifted out on the falling edge of the serial clock. The EQIO (See Datasheet)", 4 VSS (power) "Ground", 5 SI/SIO0 (io), 6 SCK (in) "To provide the timing of the serial interface. Commands, addresses, or input data are latched on the rising edge of the clock input, while output data is shifted out on the falling edge of the clock input.", 7 SIO3 (io) "To transfer commands, addresses, or data serially into the device or data out of the device. Inputs are latched on the rising edge of the serial clock. Data is shifted out on the falling edge of the serial clock. The EQIO (See Datasheet)", 8 VDD (power) "To provide power supply voltage: 2.7-3.6V"

## SST26VF016-80-5I-S2AE-T
designator U?
16 Mbit Serial Quad I/O (SQI) Flash Memory, 2.7 to 3.6 V, 80 MHz, -40 to 85 degC, 8-pin SOIC (S2A8), Tape and Reel; Manufacturer: Microchip; PartNumber: SST26VF016-80-5I-S2AE-T; DatasheetVersion: Rev. A; PackageVersion: Rev. A; PackageReference: SOIC-S2A8; PackageDescription: 8-Lead Plastic Small Outline Intergrated Circuit, 5.275 x 5.275 mm Body, 1.27 mm Pitch; Supplier 1: Digi-Key; Supplier Part Number 1: SST26VF016-80-5I-S2AE-T-ND; Mounting Technology: Surface Mount; ComponentLink1Description: Manufacturer URL; ComponentLink1URL: http://www.microchip.com; ComponentLink2Description: Datasheet; ComponentLink2URL: http://ww1.microchip.com/downloads/en/DeviceDoc/25017A.pdf; ComponentLink3Description: Package Specification; ComponentLink3URL: http://ww1.microchip.com/downloads/en/DeviceDoc/25051A.pdf; ComponentLink4Description: Product URL; ComponentLink4URL: http://www.microchip.com/SST26VF016
footprint MCHP-SOIC-S2A8_N (SOIC, 8-Leads, Body 5.275x5.275mm, Pitch 1.27mm, IPC Medium Density)
footprint MCHP-SOIC-S2A8_L (SOIC, 8-Leads, Body 5.275x5.275mm, Pitch 1.27mm, IPC High Density)
footprint MCHP-SOIC-S2A8_M (SOIC, 8-Leads, Body 5.275x5.275mm, Pitch 1.27mm, IPC Low Density)
pins: 1 CE# (in) "The device is enabled by a high to low transition on CE#. CE# must remain low for the duration of any command sequence; or in the case of Write operations, for the command/data input sequence.", 2 SO/SIO1 (io), 3 SIO2 (io) "To transfer commands, addresses, or data serially into the device or data out of the device. Inputs are latched on the rising edge of the serial clock. Data is shifted out on the falling edge of the serial clock. The EQIO (See Datasheet)", 4 VSS (power) "Ground", 5 SI/SIO0 (io), 6 SCK (in) "To provide the timing of the serial interface. Commands, addresses, or input data are latched on the rising edge of the clock input, while output data is shifted out on the falling edge of the clock input.", 7 SIO3 (io) "To transfer commands, addresses, or data serially into the device or data out of the device. Inputs are latched on the rising edge of the serial clock. Data is shifted out on the falling edge of the serial clock. The EQIO (See Datasheet)", 8 VDD (power) "To provide power supply voltage: 2.7-3.6V"

## SST26VF032-80-5I-S2AE
designator U?
32 Mbit Serial Quad I/O (SQI) Flash Memory, 2.7 to 3.6 V, 80 MHz, -40 to 85 degC, 8-pin SOIC (S2A8), Tube; Manufacturer: Microchip; PartNumber: SST26VF032-80-5I-S2AE; DatasheetVersion: Rev. A; PackageVersion: Rev. A; PackageReference: SOIC-S2A8; PackageDescription: 8-Lead Plastic Small Outline Intergrated Circuit, 5.275 x 5.275 mm Body, 1.27 mm Pitch; Supplier 1: Digi-Key; Supplier Part Number 1: SST26VF032-80-5I-S2AE-ND; Mounting Technology: Surface Mount; ComponentLink1Description: Manufacturer URL; ComponentLink1URL: http://www.microchip.com; ComponentLink2Description: Datasheet; ComponentLink2URL: http://ww1.microchip.com/downloads/en/DeviceDoc/25017A.pdf; ComponentLink3Description: Package Specification; ComponentLink3URL: http://ww1.microchip.com/downloads/en/DeviceDoc/25051A.pdf; ComponentLink4Description: Product URL; ComponentLink4URL: http://www.microchip.com/SST26VF032
footprint MCHP-SOIC-S2A8_N (SOIC, 8-Leads, Body 5.275x5.275mm, Pitch 1.27mm, IPC Medium Density)
footprint MCHP-SOIC-S2A8_L (SOIC, 8-Leads, Body 5.275x5.275mm, Pitch 1.27mm, IPC High Density)
footprint MCHP-SOIC-S2A8_M (SOIC, 8-Leads, Body 5.275x5.275mm, Pitch 1.27mm, IPC Low Density)
pins: 1 CE# (in) "The device is enabled by a high to low transition on CE#. CE# must remain low for the duration of any command sequence; or in the case of Write operations, for the command/data input sequence.", 2 SO/SIO1 (io), 3 SIO2 (io) "To transfer commands, addresses, or data serially into the device or data out of the device. Inputs are latched on the rising edge of the serial clock. Data is shifted out on the falling edge of the serial clock. The EQIO (See Datasheet)", 4 VSS (power) "Ground", 5 SI/SIO0 (io), 6 SCK (in) "To provide the timing of the serial interface. Commands, addresses, or input data are latched on the rising edge of the clock input, while output data is shifted out on the falling edge of the clock input.", 7 SIO3 (io) "To transfer commands, addresses, or data serially into the device or data out of the device. Inputs are latched on the rising edge of the serial clock. Data is shifted out on the falling edge of the serial clock. The EQIO (See Datasheet)", 8 VDD (power) "To provide power supply voltage: 2.7-3.6V"